# EAGLE library part CON-HEADERS-JP_F-1X07- (library pdbV2.0)
FEMALE HEADER
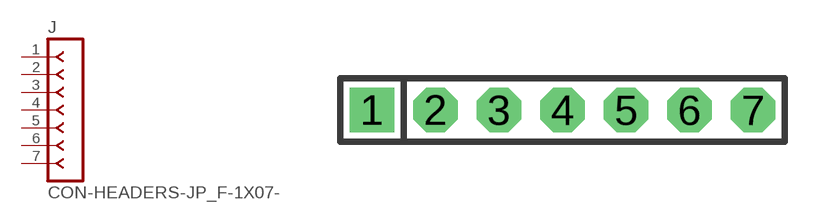
[diagram p0: symbol with the pads of CON-HEADERS-JP_SIP-100-07-40; footprint CON-HEADERS-JP_SIP-100-07-40]

Designator prefix J

## CON-HEADERS-JP_F-1X07-SIP-100-40  [CON-HEADERS-JP_SIP-100-07-40]
1  1  pas
2  2  pas
3  3  pas
4  4  pas
5  5  pas
6  6  pas
7  7  pas

## Footprint CON-HEADERS-JP_SIP-100-07-40 (pad centres in mm)
SIP Header - 0.1", 40 mil drill
drill 1.016 pad 1.778 square: 1 -7.62,0
drill 1.016 pad 1.778 octagon: 2 -5.08,0; 3 -2.54,0; 4 0,0; 5 2.54,0; 6 5.08,0; 7 7.62,0